# EAGLE library part ADG779 (library analog-devices)
ANALOG SWITCH
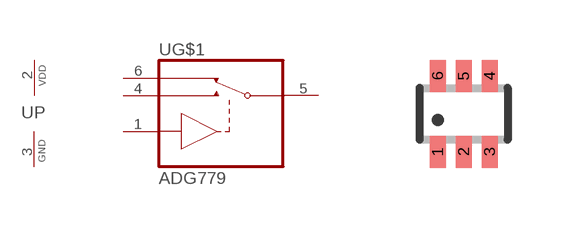
[diagram p79: symbol with the pads of SC70-6L; footprint SC70-6L]

Designator prefix U; gates G$1=ADG779 P=PWRN_VDDGND

## ADG779  [SC70-6L]
1  G$1:IN  in
2  P:VDD  pwr
3  P:GND  pwr
4  G$1:S1  pas
5  G$1:D  pas
6  G$1:S2  pas

## Footprint SC70-6L (pad centres in mm)
SC-70 Package
smd 0.4 x 0.8: 1 -0.65,-0.95; 2 0,-0.95; 3 0.65,-0.95; 4 0.65,0.95; 5 0,0.95; 6 -0.65,0.95